# Altium schematic symbol library Resistor TH.SchLib: 7 symbols
Pins are listed as number, name and electrical type; pins without a type are passive.

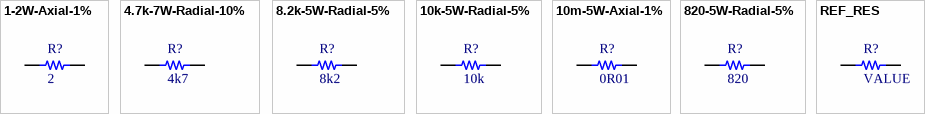
[diagram p0: symbols 1-2W-Axial-1% to REF_RES]

## 1-2W-Axial-1%
designator R?, comment 2
Resistor, 2, 2W Power Rating, Axial Package; ManufacturerName: Ohmite; ManufacturerReference: WNC2R0FET; InventoryNumber: RES120; Value: 2 Ohm; PowerRating: 2 Watt; Other: 1%; DistributorName: Digikey; DistributorReference: WNC2R0FECT-ND; PackageReference: Axial; Category: Resistor
pins: 1, 2

## 4.7k-7W-Radial-10%
designator R?, comment 4k7
Resistor, 4.7k, 7W Power Rating, Radial Package; InventoryNumber: RES125; Value: 4.7k Ohm; PowerRating: 7 Watt; Other: 10%; DistributorName: Digikey; DistributorReference: *; PackageReference: Radial; ManufacturerReference: *; Category: Resistor
pins: 1, 2

## 8.2k-5W-Radial-5%
designator R?, comment 8k2
Resistor, 8.2k, 5W Power Rating, Radial Package; ManufacturerName: Ohmite; ManufacturerReference: TWM5J8K2; InventoryNumber: RES117; Value: 8.2k Ohm; PowerRating: 5 Watt; Other: 5%, flame proof; DistributorName: Digikey; DistributorReference: TWM5J8K2-ND; PackageReference: Radial; Category: Resistor
pins: 1, 2

## 10k-5W-Radial-5%
designator R?, comment 10k
Resistor, 10k, 5W Power Rating, Radial Package; ManufacturerName: Ohmite; ManufacturerReference: TWM5J10KE; InventoryNumber: RES118; Value: 10k Ohm; PowerRating: 5 Watt; Other: 5%, flame proof; DistributorName: Digikey; DistributorReference: TWM5J10KE-ND; PackageReference: Radial; Category: Resistor
pins: 1, 2

## 10m-5W-Axial-1%
designator R?, comment 0R01
Resistor, 10m, 5W Power Rating, Axial Package; ManufacturerName: Ohmite; ManufacturerReference: 15FR010; InventoryNumber: RES119; Value: 10m Ohm; PowerRating: 5 Watt; Other: 1%, current sense, non-inductive; DistributorName: Digikey; DistributorReference: 15FR010-ND; PackageReference: Axial; Category: Resistor
pins: 1, 2

## 820-5W-Radial-5%
designator R?, comment 820
Resistor, 820, 5W Power rating, Radial Package; ManufacturerName: Ohmite; ManufacturerReference: TWM5J820E; InventoryNumber: RES116; Value: 820 Ohm; PowerRating: 5 Watt; Other: 5%, flame proof; DistributorName: Digikey; DistributorReference: TWM5J820E-ND; PackageReference: Radial; Category: Resistor
pins: 1, 2

## REF_RES
designator R?, comment VALUE
Resistor, Value, Power Rating, Package; DistributorName: Digikey; DistributorReference: *; InventoryNumber: *; Value: *; PowerRating: *; PackageReference: *; Other: *; Category: Resistor
pins: 1, 2